# Altium schematic symbol library op_amp.SchLib: 1 symbol
Pins are listed as number, name and electrical type; pins without a type are passive.

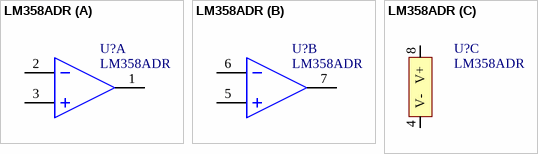
[diagram p0: symbol LM358ADR]

## LM358ADR
designator U?
IC OPAMP GP 2 CIRCUIT 8SOIC; Manufacturer 1: Texas Instruments; Manufacturer Part Number 1: LM358ADR; Supplier 1: Digi-Key; Supplier Part Number 1: 296-14601-1-ND
footprint SOIC-8
part A pins: 1 OUTA (hiz), 2 INA- (hiz), 3 INA+ (hiz)
part B pins: 5 INB+ (hiz), 6 INB- (hiz), 7 OUTB (hiz)
part C pins: 4 V-, 8 V+